# Altium footprint library Custom_footprint.PcbLib: 7 footprints
Each footprint in its own frame and in the unit in brackets; x right, y up, seen from the top. Pads: shape width x height; smd on the part's side, far side on the other; paste and mask are expansions set on the pad; w line width, h text height; cw(c..) or ccw(c..) is an arc to the next point about the centre after c.
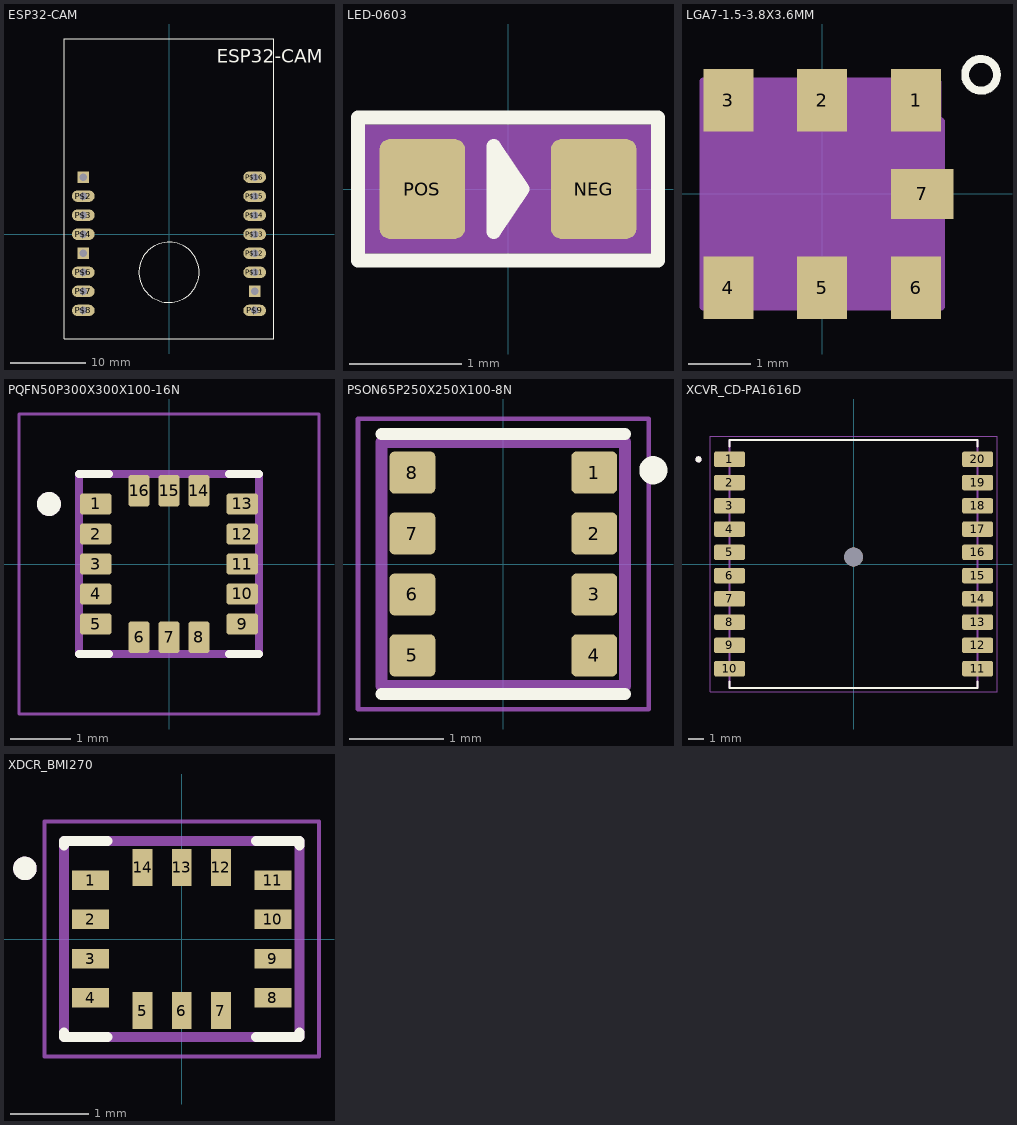
[diagram p0: the footprints below, top view; thin cyan lines are the x and y axes]

## ESP32-CAM [mil]
pads (16):
  rect 60x60 / inner round 60 / far side rect 60x60 hole 40: P$1(-450,300) P$5(-450,-100) P$10(450,-300)
  oval 120x60 hole 40: P$2(-450,200) P$3(-450,100) P$4(-450,0) P$6(-450,-200) P$7(-450,-300) P$8(-450,-400) P$9(450,-400) P$11(450,-200) P$12(450,-100) P$13(450,0) P$14(450,100) P$15(450,200) P$16(450,300)
Top Overlay:
  circle w5: c0,-200 r158.11
  lines w5: -550,-550 -550,1025 550,1025 550,-550 -550,-550
  text "ESP32-CAM" at 250,900 h70
3D body "step_temp.STEP": height 177.17, standoff -84.65, extent -531.5,-787.4 531.5,787.4

## LED-0603 [mil]
pads (2):
  rrect25% 30x35 smd: NEG(30,0) POS(-30,0)
Top Overlay:
  lines w5: 0,-7.5 0,7.5 ; 0,-7.5 5,0 0,7.5 ; 0,-7.5 -5,-15 -5,15 0,7.5 ; -52.5,-25 -52.5,25 52.5,25 52.5,-25 -52.5,-25
Mechanical 15:
  region: 50,-22.51 -50.03,-22.51 -50.03,22.5 50,22.5
3D body "step_temp.STEP": height 19.68, standoff 0, extent -31.5,-15.75 31.5,15.75

## LGA7-1.5-3.8X3.6MM [mm]
pads (7):
  rect 0.8x1 smd: 1(1.5,1.5) 2(0,1.5) 3(-1.5,1.5) 4(-1.5,-1.5) 5(0,-1.5) 6(1.5,-1.5)
  rect 1x0.8 smd: 7(1.6,0)
Top Overlay:
  circle w0.127: c2.54,1.905 r0.254
Mechanical 13:
  lines w0.127: -1.9,-1.8 -1.9,1.8 1.255,1.8 1.9,1.155 1.9,-1.8 -1.9,-1.8
Mechanical 15:
  region: 1.9,-1.802 -1.902,-1.802 -1.902,1.8 1.9,1.8
3D body "step_temp.STEP": height 1, standoff 0, extent -1.9,-1.8 1.9,1.8

## PQFN50P300X300X100-16N [mm]
height 1
pads (16):
  rrect25% 0.53x0.35 smd: 1(-1.22,1) 2(-1.22,0.5) 3(-1.22,0) 4(-1.22,-0.5) 5(-1.22,-1) 9(1.22,-1) 10(1.22,-0.5) 11(1.22,0) 12(1.22,0.5) 13(1.22,1)
  rrect25% 0.35x0.53 smd: 6(-0.5,-1.22) 7(0,-1.22) 8(0.5,-1.22) 14(0.5,1.22) 15(0,1.22) 16(-0.5,1.22)
Top Overlay:
  circle w0.2: c-2,1 r0.1
  lines w0.127: -1.5,-1.5 -1,-1.5 ; -1.5,1.5 -1,1.5 ; 1,-1.5 1.5,-1.5 ; 1,1.5 1.5,1.5
Mechanical 13:
  circle w0.2: c-2,1 r0.1
  lines w0.127: -1.5,-1.5 1.5,-1.5 1.5,1.5 -1.5,1.5 -1.5,-1.5
Mechanical 15:
  lines w0.05: -2.5,-2.5 2.5,-2.5 2.5,2.5 -2.5,2.5 -2.5,-2.5
3D body "step_temp.STEP": height 1, standoff 0, extent -1.5,-1.5 1.5,1.5

## PSON65P250X250X100-8N [mm]
pads (8):
  rrect25% 0.49x0.45 smd paste+0 mask+0.102: 1(0.97,0.975) 2(0.97,0.325) 3(0.97,-0.325) 4(0.97,-0.975) 5(-0.97,-0.975) 6(-0.97,-0.325) 7(-0.97,0.325) 8(-0.97,0.975)
Top Overlay:
  circle w0.2: c1.6,1 r0.05
  lines w0.127: -1.3,-1.385 1.3,-1.385 ; -1.3,1.385 1.3,1.385
Mechanical 13:
  circle w0.2: c1,1 r0.05
  lines w0.127: -1.3,-1.3 -1.3,1.3 1.3,1.3 1.3,-1.3 -1.3,-1.3
Mechanical 15:
  lines w0.05: -1.55,-1.55 1.55,-1.55 1.55,1.55 -1.55,1.55 -1.55,-1.55
3D body "step_temp.STEP": height 1, standoff 0, extent -1.25,-1.25 1.25,1.25

## XCVR_CD-PA1616D [mm]
height 6.7
pads (21):
  rrect25% 2x1 smd: 1(-8,6.75) 2(-8,5.25) 3(-8,3.75) 4(-8,2.25) 5(-8,0.75) 6(-8,-0.75) 7(-8,-2.25) 8(-8,-3.75) 9(-8,-5.25) 10(-8,-6.75) 11(8,-6.75) 12(8,-5.25) 13(8,-3.75) 14(8,-2.25) 15(8,-0.75) 16(8,0.75) 17(8,2.25) 18(8,3.75) 19(8,5.25) 20(8,6.75)
  round 1.21 hole 1.21 unplated: ""(0,0.45)
Top Overlay:
  circle w0.2: c-10,6.75 r0.1
  lines w0.127: -8,-7.57 -8,-8 8,-8 8,-7.57 ; -8,7.57 -8,8 8,8 8,7.57
Mechanical 13:
  circle w0.2: c-10,6.75 r0.1
  lines w0.127: -8,-8 -8,8 8,8 8,-8 -8,-8
Mechanical 15:
  lines w0.05: -9.25,-8.25 -9.25,8.25 9.25,8.25 9.25,-8.25 -9.25,-8.25
3D body "step_temp.STEP": height 6.7, standoff 0, extent -8,-8 8,8

## XDCR_BMI270 [mm]
pads (14):
  rect 0.475x0.25 smd: 1(-1.162,0.75) 2(-1.162,0.25) 3(-1.162,-0.25) 4(-1.162,-0.75) 8(1.162,-0.75) 9(1.162,-0.25) 10(1.162,0.25) 11(1.162,0.75)
  rect 0.25x0.475 smd: 5(-0.5,-0.913) 6(0,-0.913) 7(0.5,-0.913) 12(0.5,0.913) 13(0,0.913) 14(-0.5,0.913)
Top Overlay:
  circle w0.15: c-2,0.9 r0.075
  lines w0.127: -1.5,-1.195 -1.5,-1.25 -0.945,-1.25 ; -1.5,1.195 -1.5,1.25 -0.945,1.25 ; 0.945,-1.25 1.5,-1.25 1.5,-1.195 ; 0.945,1.25 1.5,1.25 1.5,1.195
Mechanical 13:
  circle w0.15: c-2,0.9 r0.075
  lines w0.127: -1.5,-1.25 -1.5,1.25 1.5,1.25 1.5,-1.25 -1.5,-1.25
Mechanical 15:
  lines w0.05: -1.75,-1.5 1.75,-1.5 1.75,1.5 -1.75,1.5 -1.75,-1.5
3D body "step_temp.STEP": height 0.87, standoff 0, extent -1.5,-1.25 1.5,1.25